# Altium schematic symbol library WS2812-2020.SchLib: 1 symbol
Pins are listed as number, name and electrical type; pins without a type are passive.

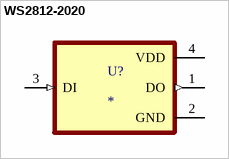
[diagram p0: symbol WS2812-2020]

## WS2812-2020
designator U?
Intelligent control LED integrated light source; MF: {'manufacturer': u'Worldsemi'}; MP: WS2812-2020; Value: *; Price: None; Availability: Unavailable; Package: None
footprint LED_WS2812-2020
pins: 1 DO (out), 2 GND (power), 3 DI (in), 4 VDD (power)